# EAGLE library part ESP32-DEVKITC (library ESP32-DEVKITC)
Check availability <https://pricing.snapeda.com/parts/ESP32-DevKitC/Espressif%20Systems/view-part?ref=eda>
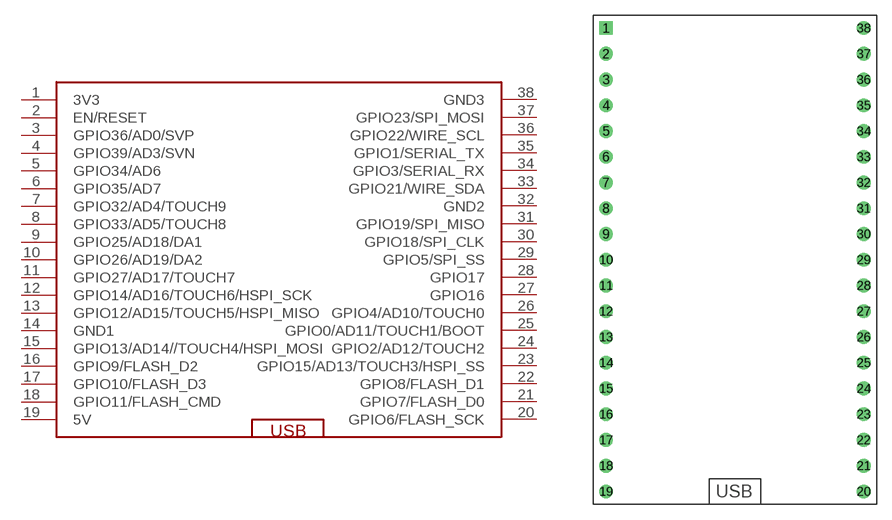
[diagram p0: symbol with the pads of ESP32-DEVKITC; footprint ESP32-DEVKITC]

Designator prefix -

## ESP32-DEVKITC (Availability: Not in stock; Check_prices: https://www.snapeda.com/parts/ESP32-DevKitC/Espressif+Systems/view-part/?ref=eda; Description: - ESP-WROOM-32 Transceiver; 802.11 b/g/n (Wi-Fi, WiFi, WLAN), Bluetooth® Smart 4.x Low Energy (BLE) 2.4GHz Evaluation Board; MF: Espressif Systems; MP: ESP32-DevKitC; Package: None; Price: None; SnapEDA_Link: https://www.snapeda.com/parts/ESP32-DevKitC/Espressif+Systems/view-part/?ref=snap)  [ESP32-DEVKITC]
1  3V3
2  EN/RESET
3  GPIO36/AD0/SVP
4  GPIO39/AD3/SVN
5  GPIO34/AD6
6  GPIO35/AD7
7  GPIO32/AD4/TOUCH9
8  GPIO33/AD5/TOUCH8
9  GPIO25/AD18/DA1
10  GPIO26/AD19/DA2
11  GPIO27/AD17/TOUCH7
12  GPIO14/AD16/TOUCH6/HSPI_SCK
13  GPIO12/AD15/TOUCH5/HSPI_MISO
14  GND1
15  GPIO13/AD14//TOUCH4/HSPI_MOSI
16  GPIO9/FLASH_D2
17  GPIO10/FLASH_D3
18  GPIO11/FLASH_CMD
19  5V
20  GPIO6/FLASH_SCK
21  GPIO7/FLASH_D0
22  GPIO8/FLASH_D1
23  GPIO15/AD13/TOUCH3/HSPI_SS
24  GPIO2/AD12/TOUCH2
25  GPIO0/AD11/TOUCH1/BOOT
26  GPIO4/AD10/TOUCH0
27  GPIO16
28  GPIO17
29  GPIO5/SPI_SS
30  GPIO18/SPI_CLK
31  GPIO19/SPI_MISO
32  GND2
33  GPIO21/WIRE_SDA
34  GPIO3/SERIAL_RX
35  GPIO1/SERIAL_TX
36  GPIO22/WIRE_SCL
37  GPIO23/SPI_MOSI
38  GND3

## Footprint ESP32-DEVKITC (pad centres in mm)
drill 0.85 square: 1 -12.7,22.86
drill 0.85: 2 -12.7,20.32; 3 -12.7,17.78; 4 -12.7,15.24; 5 -12.7,12.7; 6 -12.7,10.16; 7 -12.7,7.62; 8 -12.7,5.08; 9 -12.7,2.54; 10 -12.7,0; 11 -12.7,-2.54; 12 -12.7,-5.08; 13 -12.7,-7.62; 14 -12.7,-10.16; 15 -12.7,-12.7; 16 -12.7,-15.24; 17 -12.7,-17.78; 18 -12.7,-20.32; 19 -12.7,-22.86; 20 12.7,-22.86; 21 12.7,-20.32; 22 12.7,-17.78; 23 12.7,-15.24; 24 12.7,-12.7; 25 12.7,-10.16; 26 12.7,-7.62; 27 12.7,-5.08; 28 12.7,-2.54; 29 12.7,0; 30 12.7,2.54; 31 12.7,5.08; 32 12.7,7.62; 33 12.7,10.16; 34 12.7,12.7; 35 12.7,15.24; 36 12.7,17.78; 37 12.7,20.32; 38 12.7,22.86